# Altium footprint library FXAS21002C.PcbLib: 1 footprints
Each footprint in its own frame and in the unit in brackets; x right, y up, seen from the top. Pads: shape width x height; smd on the part's side, far side on the other; paste and mask are expansions set on the pad; w line width, h text height; cw(c..) or ccw(c..) is an arc to the next point about the centre after c.
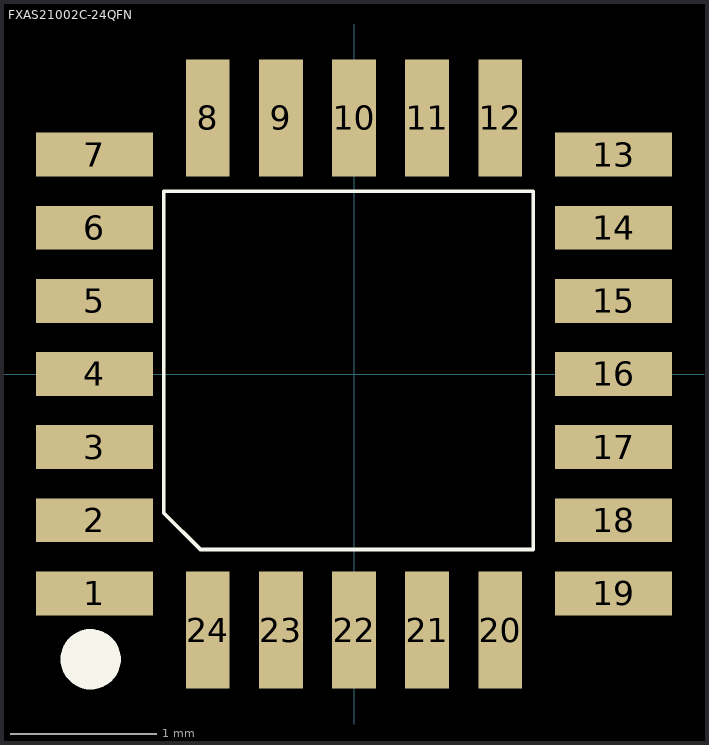
[diagram p0: the footprint, top view; thin cyan lines are the x and y axes]

## FXAS21002C-24QFN [mm]
pads (24):
  rect 0.8x0.3 smd mask+0: 1(-1.775,-1.5) 2(-1.775,-1) 3(-1.775,-0.5) 4(-1.775,0) 5(-1.775,0.5) 6(-1.775,1) 7(-1.775,1.5) 13(1.775,1.5) 14(1.775,1) 15(1.775,0.5) 16(1.775,0) 17(1.775,-0.5) 18(1.775,-1) 19(1.775,-1.5)
  rect 0.3x0.8 smd mask+0: 8(-1,1.75) 9(-0.5,1.75) 10(0,1.75) 11(0.5,1.75) 12(1,1.75) 20(1,-1.75) 21(0.5,-1.75) 22(0,-1.75) 23(-0.5,-1.75) 24(-1,-1.75)
Top Overlay:
  lines w0.025: -1.3,-0.95 -1.3,1.25 1.225,1.25 1.225,-1.2 -1.05,-1.2 -1.3,-0.95
  lines w0.254: -1.722,-1.963 cw(c-1.8,-1.95) -1.721,-1.95